# Altium schematic symbol library Turck FKFD.Schlib: 1 symbol
Pins are listed as number, name and electrical type; pins without a type are passive.

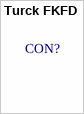
[diagram p0: symbol Turck FKFD]

## Turck FKFD
designator CON?  (mechanical)